# Altium schematic symbol library ic-mcu-dsp.SchLib: 16 symbols
Pins are listed as number, name and electrical type; pins without a type are passive.

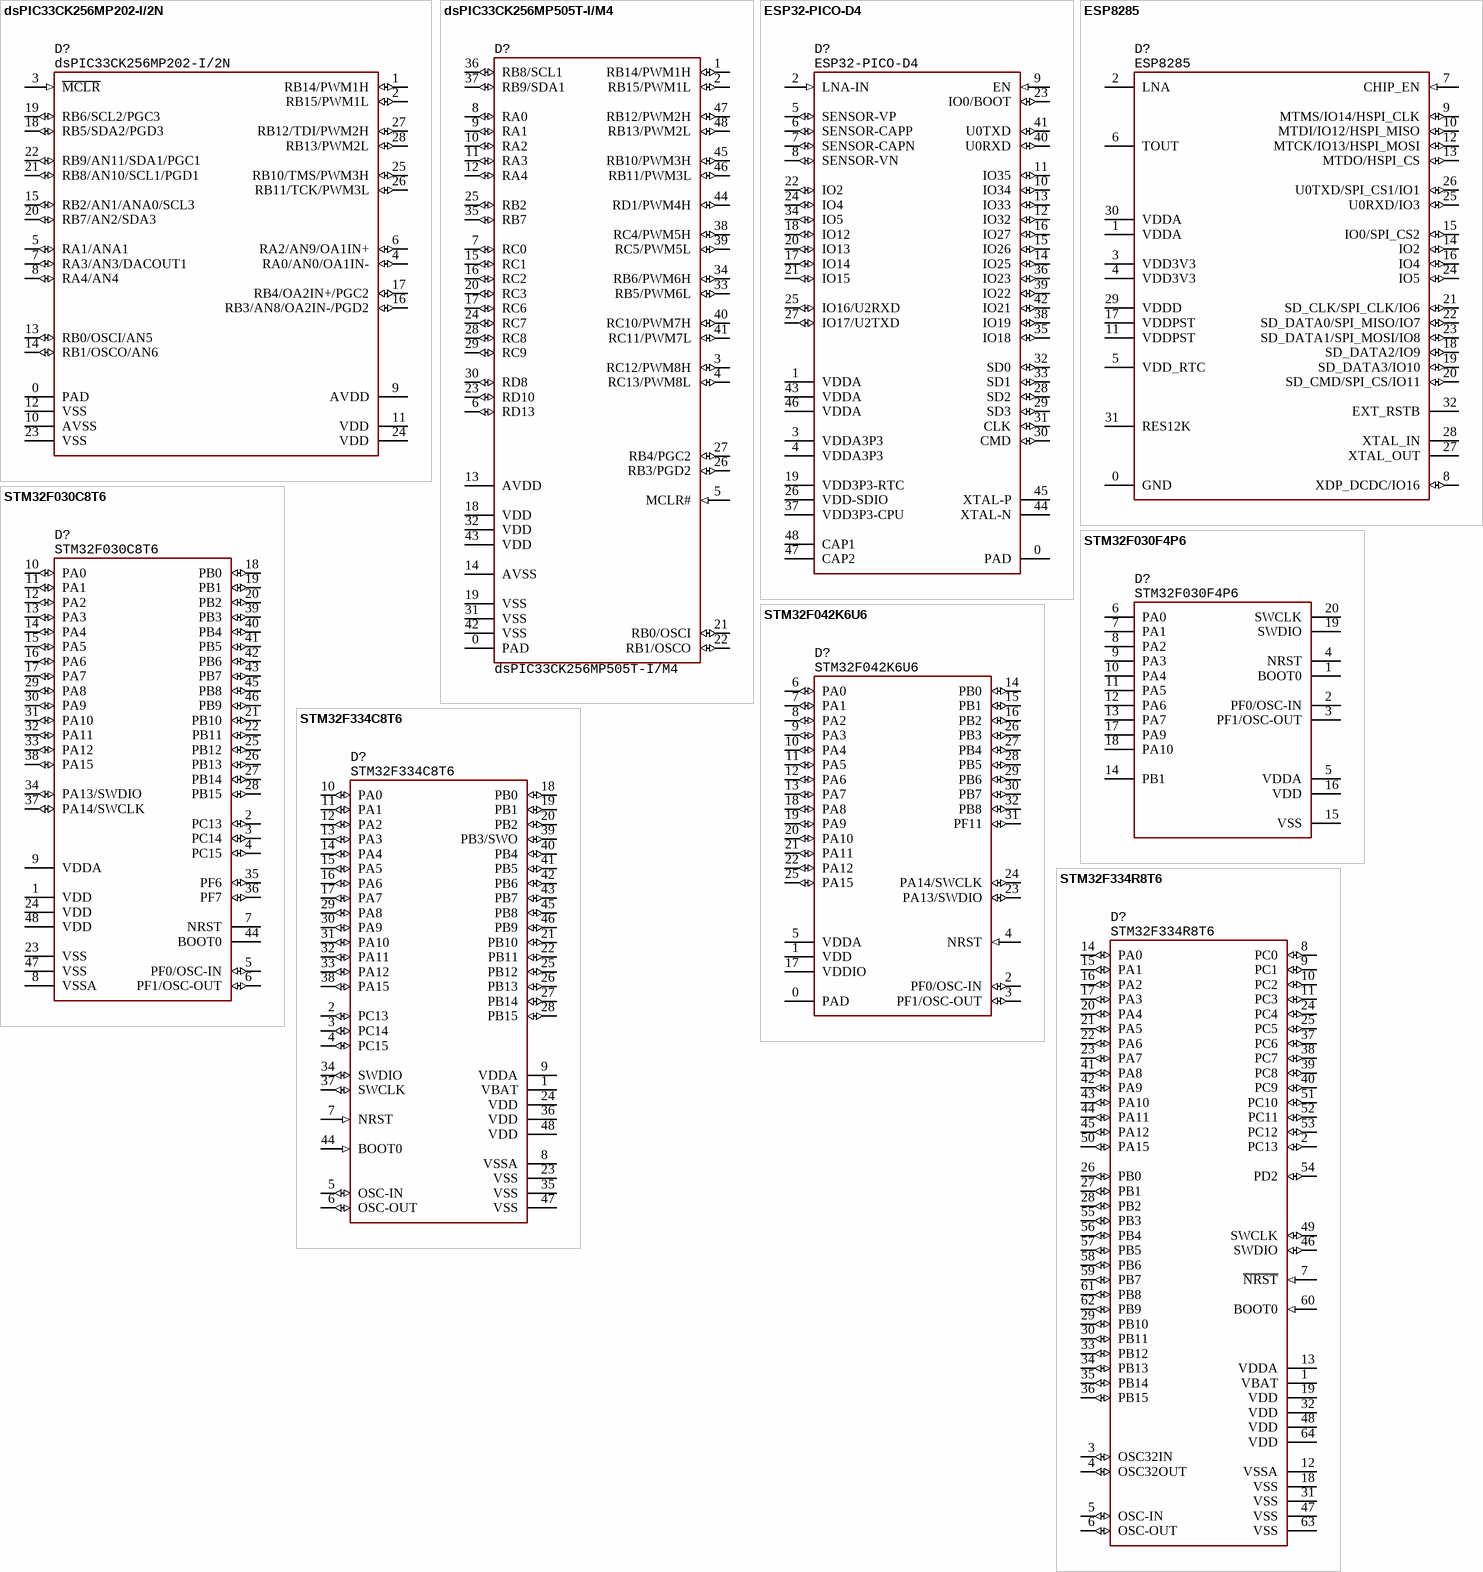
[diagram p0: symbols dsPIC33CK256MP202-I/2N to STM32F334R8T6]

## dsPIC33CK256MP202-I/2N
designator D?
DSP, 100MHz, 256KB ROM, 24KB RAM, 3...3.6V, QFN-28, -40...+85°C; Manufacturer: Microchip; HelpURL: https://nl.mouser.com/ProductDetail/579-PIC33CK256MP202I; Package: QFN-28; PartNumber: dsPIC33CK256MP202-I/2N
footprint 28-QFN (6x6, pitch 0.65) (6x6 mm, pitch 0.65 mm, power pad)
pins: 0 PAD, 1 RB14/PWM1H (io), 2 RB15/PWM1L (io), 3 ~{MCLR} (in), 4 RA0/AN0/OA1IN- (io), 5 RA1/ANA1 (io), 6 RA2/AN9/OA1IN+ (io), 7 RA3/AN3/DACOUT1 (io), 8 RA4/AN4 (io), 9 AVDD, 10 AVSS, 11 VDD, 12 VSS, 13 RB0/OSCI/AN5 (io), 14 RB1/OSCO/AN6 (io), 15 RB2/AN1/ANA0/SCL3 (io), 16 RB3/AN8/OA2IN-/PGD2 (io), 17 RB4/OA2IN+/PGC2 (io), 18 RB5/SDA2/PGD3 (io), 19 RB6/SCL2/PGC3 (io), 20 RB7/AN2/SDA3 (io), 21 RB8/AN10/SCL1/PGD1 (io), 22 RB9/AN11/SDA1/PGC1 (io), 23 VSS, 24 VDD, 25 RB10/TMS/PWM3H (io), 26 RB11/TCK/PWM3L (io), 27 RB12/TDI/PWM2H (io), 28 RB13/PWM2L (io)

## dsPIC33CK256MP505T-I/M4
designator D?
DSP, 100MHz, 256KB ROM, 24KB RAM, 3...3.6V, UFQFN-48, -40...+150°C; Manufacturer: Microchip; Package: UQFN-48; HelpURL: https://ru.mouser.com/ProductDetail/Microchip-Technology/DSPIC33CK256MP505T-I-M4?qs=%2Fha2pyFaduhcby8oJD11aCzYzUP7BqiSeN7R00aGZac4AWBDNl%2F3FStKyPbqpsOD; PartNumber: dsPIC33CK256MP505T-I/M4
footprint 48-QFN (6x6, pitch 0.4) (6x6 mm, pitch 0.4 mm, power pad)
pins: 0 PAD, 1 RB14/PWM1H (io), 2 RB15/PWM1L (io), 3 RC12/PWM8H (io), 4 RC13/PWM8L (io), 5 MCLR# (in), 6 RD13 (io), 7 RC0 (io), 8 RA0 (io), 9 RA1 (io), 10 RA2 (io), 11 RA3 (io), 12 RA4 (io), 13 AVDD, 14 AVSS, 15 RC1 (io), 16 RC2 (io), 17 RC6 (io), 18 VDD, 19 VSS, 20 RC3 (io), 21 RB0/OSCI (io), 22 RB1/OSCO (io), 23 RD10 (io), 24 RC7 (io), 25 RB2 (io), 26 RB3/PGD2 (io), 27 RB4/PGC2 (io), 28 RC8 (io), 29 RC9 (io), 30 RD8 (io), 31 VSS, 32 VDD, 33 RB5/PWM6L (io), 34 RB6/PWM6H (io), 35 RB7 (io), 36 RB8/SCL1 (io), 37 RB9/SDA1 (io), 38 RC4/PWM5H (io), 39 RC5/PWM5L (io), 40 RC10/PWM7H (io), 41 RC11/PWM7L (io), 42 VSS, 43 VDD, 44 RD1/PWM4H (io), 45 RB10/PWM3H (io), 46 RB11/PWM3L (io), 47 RB12/PWM2H (io), 48 RB13/PWM2L (io)

## ESP32-PICO-D4
designator D?
RF SiP, WiFi/BT, 150 Mbps, 20 dBm, 4 Mb ROM, 512 kB RAM, QFN-48, -40...+85°C; Manufacturer: Espressif Systems; HelpURL: https://eu.mouser.com/ProductDetail/Espressif-Systems/ESP32-PICO-D4?qs=MLItCLRbWsw7MJlbN3HfdA%3D%3D; Package: QFN-48; PartNumber: ESP32-PICO-D4
footprint 48-LGA (7x7, pitch 0.5) (7x7 mm, pitch 0.5 mm, power pad)
pins: 0 PAD, 1 VDDA, 2 LNA-IN (in), 3 VDDA3P3, 4 VDDA3P3, 5 SENSOR-VP (io), 6 SENSOR-CAPP (io), 7 SENSOR-CAPN (io), 8 SENSOR-VN (io), 9 EN (in), 10 IO34 (io), 11 IO35 (io), 12 IO32 (io), 13 IO33 (io), 14 IO25 (io), 15 IO26 (io), 16 IO27 (io), 17 IO14 (io), 18 IO12 (io), 19 VDD3P3-RTC, 20 IO13 (io), 21 IO15 (io), 22 IO2 (io), 23 IO0/BOOT (io), 24 IO4 (io), 25 IO16/U2RXD (io), 26 VDD-SDIO, 27 IO17/U2TXD (io), 28 SD2 (io), 29 SD3 (io), 30 CMD (io), 31 CLK (io), 32 SD0 (io), 33 SD1 (io), 34 IO5 (io), 35 IO18 (io), 36 IO23 (io), 37 VDD3P3-CPU, 38 IO19 (io), 39 IO22 (io), 40 U0RXD (io), 41 U0TXD (io), 42 IO21 (io), 43 VDDA, 44 XTAL-N, 45 XTAL-P, 46 VDDA, 47 CAP2, 48 CAP1

## ESP8285
designator D?
RF SoC, WiFi/BT, 72 Mbps, 19 dBm, 1024 kB ROM, 50 kB RAM, QFN-32, -40...+85°C; Manufacturer: Espressif Systems; HelpURL: https://eu.mouser.com/ProductDetail/Espressif-Systems/ESP8285?qs=chTDxNqvsyn49Ad%252BqWdhIQ%3D%3D; Package: QFN-32; PartNumber: ESP8285
footprint 32-QFN (5x5, pitch 0.5) (5x5 mm, pitch 0.5 mm, power pad)
pins: 0 GND, 1 VDDA, 2 LNA, 3 VDD3V3, 4 VDD3V3, 5 VDD_RTC, 6 TOUT, 7 CHIP_EN (in), 8 XDP_DCDC/IO16 (io), 9 MTMS/IO14/HSPI_CLK (io), 10 MTDI/IO12/HSPI_MISO (io), 11 VDDPST, 12 MTCK/IO13/HSPI_MOSI (io), 13 MTDO/HSPI_CS (io), 14 IO2 (io), 15 IO0/SPI_CS2 (io), 16 IO4 (io), 17 VDDPST, 18 SD_DATA2/IO9 (io), 19 SD_DATA3/IO10 (io), 20 SD_CMD/SPI_CS/IO11 (io), 21 SD_CLK/SPI_CLK/IO6 (io), 22 SD_DATA0/SPI_MISO/IO7 (io), 23 SD_DATA1/SPI_MOSI/IO8 (io), 24 IO5 (io), 25 U0RXD/IO3 (io), 26 U0TXD/SPI_CS1/IO1 (io), 27 XTAL_OUT, 28 XTAL_IN, 29 VDDD, 30 VDDA, 31 RES12K, 32 EXT_RSTB

## STM32F030C8T6
designator D?
Cortex-M0, 48MHz, 64KB ROM, 8KB RAM, 1.8...3.6V, LQFP-48, -40...+85°C; Manufacturer: STMicroelectronics; HelpURL: https://eu.mouser.com/ProductDetail/STMicroelectronics/STM32F030C8T6?qs=eyrSuY1LhL02NUjnPm0S4A%3D%3D; Package: LQFP-48; PartNumber: STM32F030C8T6
footprint 48-LQFP (QFP, 48-Leads, Body 7x7mm, Pitch 0.5mm, IPC Medium Density)
pins: 1 VDD, 2 PC13 (io), 3 PC14 (io), 4 PC15 (io), 5 PF0/OSC-IN (io), 6 PF1/OSC-OUT (io), 7 NRST, 8 VSSA, 9 VDDA, 10 PA0 (io), 11 PA1 (io), 12 PA2 (io), 13 PA3 (io), 14 PA4 (io), 15 PA5 (io), 16 PA6 (io), 17 PA7 (io), 18 PB0 (io), 19 PB1 (io), 20 PB2 (io), 21 PB10 (io), 22 PB11 (io), 23 VSS, 24 VDD, 25 PB12 (io), 26 PB13 (io), 27 PB14 (io), 28 PB15 (io), 29 PA8 (io), 30 PA9 (io), 31 PA10 (io), 32 PA11 (io), 33 PA12 (io), 34 PA13/SWDIO (io), 35 PF6 (io), 36 PF7 (io), 37 PA14/SWCLK (io), 38 PA15 (io), 39 PB3 (io), 40 PB4 (io), 41 PB5 (io), 42 PB6 (io), 43 PB7 (io), 44 BOOT0, 45 PB8 (io), 46 PB9 (io), 47 VSS, 48 VDD

## STM32F030F4P6
designator D?
Cortex-M0, 48MHz, 16KB ROM, 4KB RAM, 2.4...3.6V, TSSOP-20, -40...+85°C; Manufacturer: STMicroelectronics; HelpURL: https://eu.mouser.com/ProductDetail/STMicroelectronics/STM32F030F4P6?qs=eyrSuY1LhL02tVhJ92aI6g%3D%3D; Package: TSSOP-20; PartNumber: STM32F030F4P6
footprint 20-TSSOP (pitch 0.65 mm)
pins: 1 BOOT0, 2 PF0/OSC-IN, 3 PF1/OSC-OUT, 4 NRST, 5 VDDA, 6 PA0, 7 PA1, 8 PA2, 9 PA3, 10 PA4, 11 PA5, 12 PA6, 13 PA7, 14 PB1, 15 VSS, 16 VDD, 17 PA9, 18 PA10, 19 SWDIO, 20 SWCLK

## STM32F042K6U6
designator D?
Cortex-M0, 48MHz, 32KB ROM, 6KB RAM, 2.4...3.6V, QFN-32, -40...+85°C; Manufacturer: STMicroelectronics; HelpURL: https://eu.mouser.com/ProductDetail/STMicroelectronics/STM32F042K6U6?qs=4l9S5vBWkUI1HFPPlP09zA%3D%3D; Package: QFN-32; PartNumber: STM32F042K6U6
footprint 32-QFN (5x5, pitch 0.5) (5x5 mm, pitch 0.5 mm, power pad)
pins: 0 PAD, 1 VDD, 2 PF0/OSC-IN (io), 3 PF1/OSC-OUT (io), 4 NRST (in), 5 VDDA, 6 PA0 (io), 7 PA1 (io), 8 PA2 (io), 9 PA3 (io), 10 PA4 (io), 11 PA5 (io), 12 PA6 (io), 13 PA7 (io), 14 PB0 (io), 15 PB1 (io), 16 PB2 (io), 17 VDDIO, 18 PA8 (io), 19 PA9 (io), 20 PA10 (io), 21 PA11 (io), 22 PA12 (io), 23 PA13/SWDIO (io), 24 PA14/SWCLK (io), 25 PA15 (io), 26 PB3 (io), 27 PB4 (io), 28 PB5 (io), 29 PB6 (io), 30 PB7 (io), 31 PF11 (io), 32 PB8 (io)

## STM32F334C8T6
designator D?
Cortex-M4, 72MHz, 64KB ROM, 12KB RAM, 2...3.6V, LQFP-48, -40...+85°C; Manufacturer: STMicroelectronics; HelpURL: https://eu.mouser.com/ProductDetail/STMicroelectronics/STM32F334C8T6?qs=9MuLHSklicqt3Oowy%252Bwgaw%3D%3D; Package: LQFP-48; PartNumber: STM32F334C8T6
footprint 48-LQFP (QFP, 48-Leads, Body 7x7mm, Pitch 0.5mm, IPC Medium Density)
pins: 1 VBAT, 2 PC13 (io), 3 PC14 (io), 4 PC15 (io), 5 OSC-IN (io), 6 OSC-OUT (io), 7 NRST (in), 8 VSSA, 9 VDDA, 10 PA0 (io), 11 PA1 (io), 12 PA2 (io), 13 PA3 (io), 14 PA4 (io), 15 PA5 (io), 16 PA6 (io), 17 PA7 (io), 18 PB0 (io), 19 PB1 (io), 20 PB2 (io), 21 PB10 (io), 22 PB11 (io), 23 VSS, 24 VDD, 25 PB12 (io), 26 PB13 (io), 27 PB14 (io), 28 PB15 (io), 29 PA8 (io), 30 PA9 (io), 31 PA10 (io), 32 PA11 (io), 33 PA12 (io), 34 SWDIO (io), 35 VSS, 36 VDD, 37 SWCLK (io), 38 PA15 (io), 39 PB3/SWO (io), 40 PB4 (io), 41 PB5 (io), 42 PB6 (io), 43 PB7 (io), 44 BOOT0 (in), 45 PB8 (io), 46 PB9 (io), 47 VSS, 48 VDD

## STM32F334R8T6
designator D?
Cortex-M4, 72MHz, 64KB ROM, 12KB RAM, 2...3.6V, LQFP-64, -40...+85°C; Manufacturer: STMicroelectronics; HelpURL: https://eu.mouser.com/ProductDetail/STMicroelectronics/STM32F334R8T6?qs=9MuLHSklicolCfS00G2jAg%3D%3D; Package: LQFP-64; PartNumber: STM32F334R8T6
footprint 64-LQFP (Thin QFP, 64-Leads, Body 10x10mm, Pitch 0.5mm, IPC Medium Density)
pins: 1 VBAT (power), 2 PC13 (io), 3 OSC32IN (io), 4 OSC32OUT (io), 5 OSC-IN (io), 6 OSC-OUT (io), 7 ~{NRST} (in), 8 PC0 (io), 9 PC1 (io), 10 PC2 (io), 11 PC3 (io), 12 VSSA (power), 13 VDDA (power), 14 PA0 (io), 15 PA1 (io), 16 PA2 (io), 17 PA3 (io), 18 VSS (power), 19 VDD (power), 20 PA4 (io), 21 PA5 (io), 22 PA6 (io), 23 PA7 (io), 24 PC4 (io), 25 PC5 (io), 26 PB0 (io), 27 PB1 (io), 28 PB2 (io), 29 PB10 (io), 30 PB11 (io), 31 VSS (power), 32 VDD (power), 33 PB12 (io), 34 PB13 (io), 35 PB14 (io), 36 PB15 (io), 37 PC6 (io), 38 PC7 (io), 39 PC8 (io), 40 PC9 (io), 41 PA8 (io), 42 PA9 (io), 43 PA10 (io), 44 PA11 (io), 45 PA12 (io), 46 SWDIO (io), 47 VSS (power), 48 VDD (power), 49 SWCLK (io), 50 PA15 (io), 51 PC10 (io), 52 PC11 (io), 53 PC12 (io), 54 PD2 (io), 55 PB3 (io), 56 PB4 (io), 57 PB5 (io), 58 PB6 (io), 59 PB7 (io), 60 BOOT0 (in), 61 PB8 (io), 62 PB9 (io), 63 VSS (power), 64 VDD (power)

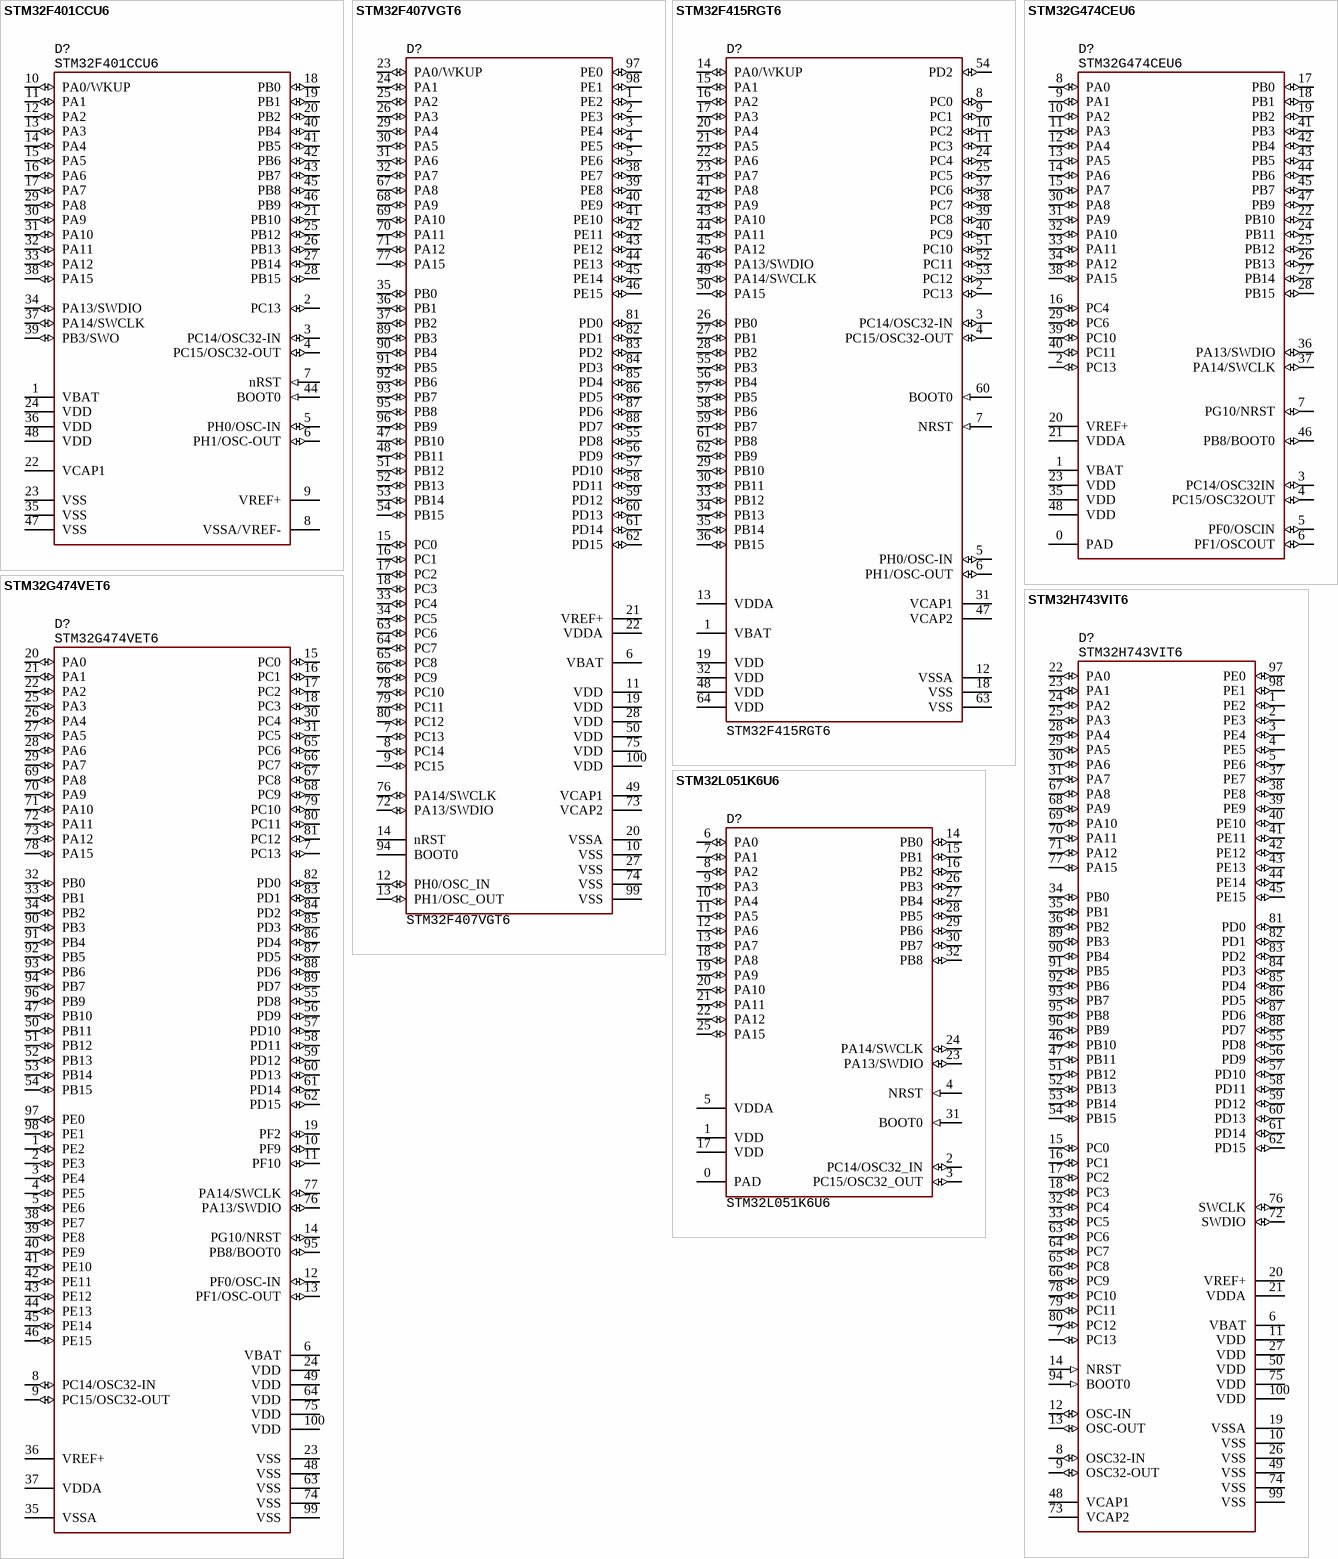
[diagram p1: symbols STM32F401CCU6 to STM32L051K6U6]

## STM32F401CCU6
designator D?
Cortex-M4, 84MHz, 256KB ROM, 64KB RAM, 1.7...3.6V, QFN-48, -40...+85°C; Manufacturer: STMicroelectronics; HelpURL: https://eu.mouser.com/ProductDetail/STMicroelectronics/STM32F401CCU6?qs=DqCdCwOw4%2F5VrOZQxO795A%3D%3D; Package: QFN-48; PartNumber: STM32F401CCU6
footprint 48-QFN (7x7, pitch 0.5) (7x7 mm, pitch 0.5 mm, power pad)
pins: 1 VBAT, 2 PC13 (io), 3 PC14/OSC32-IN (io), 4 PC15/OSC32-OUT (io), 5 PH0/OSC-IN (io), 6 PH1/OSC-OUT (io), 7 nRST (in), 8 VSSA/VREF-, 9 VREF+, 10 PA0/WKUP (io), 11 PA1 (io), 12 PA2 (io), 13 PA3 (io), 14 PA4 (io), 15 PA5 (io), 16 PA6 (io), 17 PA7 (io), 18 PB0 (io), 19 PB1 (io), 20 PB2 (io), 21 PB10 (io), 22 VCAP1, 23 VSS, 24 VDD, 25 PB12 (io), 26 PB13 (io), 27 PB14 (io), 28 PB15 (io), 29 PA8 (io), 30 PA9 (io), 31 PA10 (io), 32 PA11 (io), 33 PA12 (io), 34 PA13/SWDIO (io), 35 VSS, 36 VDD, 37 PA14/SWCLK (io), 38 PA15 (io), 39 PB3/SWO (io), 40 PB4 (io), 41 PB5 (io), 42 PB6 (io), 43 PB7 (io), 44 BOOT0 (in), 45 PB8 (io), 46 PB9 (io), 47 VSS, 48 VDD

## STM32F407VGT6
designator D?  PartNumber: STM32F407VGT6
Cortex-M4, 168MHz, 1024KB ROM, 192KB RAM, 1.8...3.6V, LQFP-100, -40...+85°C; Manufacturer: STMicroelectronics; HelpURL: https://www.digikey.com/en/products/detail/stmicroelectronics/STM32F407VGT6/2747117; Package: 100-LQFP
footprint 100-LQFP (Thin QFP, 100-Leads, Body 14x14mm, Pitch 0.5mm, IPC Medium Density)
pins: 1 PE2 (io), 2 PE3 (io), 3 PE4 (io), 4 PE5 (io), 5 PE6 (io), 6 VBAT, 7 PC13 (io), 8 PC14 (io), 9 PC15 (io), 10 VSS, 11 VDD, 12 PH0/OSC_IN (io), 13 PH1/OSC_OUT (io), 14 nRST, 15 PC0 (io), 16 PC1 (io), 17 PC2 (io), 18 PC3 (io), 19 VDD, 20 VSSA, 21 VREF+, 22 VDDA, 23 PA0/WKUP (io), 24 PA1 (io), 25 PA2 (io), 26 PA3 (io), 27 VSS, 28 VDD, 29 PA4 (io), 30 PA5 (io), 31 PA6 (io), 32 PA7 (io), 33 PC4 (io), 34 PC5 (io), 35 PB0 (io), 36 PB1 (io), 37 PB2 (io), 38 PE7 (io), 39 PE8 (io), 40 PE9 (io), 41 PE10 (io), 42 PE11 (io), 43 PE12 (io), 44 PE13 (io), 45 PE14 (io), 46 PE15 (io), 47 PB10 (io), 48 PB11 (io), 49 VCAP1, 50 VDD, 51 PB12 (io), 52 PB13 (io), 53 PB14 (io), 54 PB15 (io), 55 PD8 (io), 56 PD9 (io), 57 PD10 (io), 58 PD11 (io), 59 PD12 (io), 60 PD13 (io), 61 PD14 (io), 62 PD15 (io), 63 PC6 (io), 64 PC7 (io), 65 PC8 (io), 66 PC9 (io), 67 PA8 (io), 68 PA9 (io), 69 PA10 (io), 70 PA11 (io), 71 PA12 (io), 72 PA13/SWDIO (io), 73 VCAP2, 74 VSS, 75 VDD, 76 PA14/SWCLK (io), 77 PA15 (io), 78 PC10 (io), 79 PC11 (io), 80 PC12 (io), 81 PD0 (io), 82 PD1 (io), 83 PD2 (io), 84 PD3 (io), 85 PD4 (io), 86 PD5 (io), 87 PD6 (io), 88 PD7 (io), 89 PB3 (io), 90 PB4 (io), 91 PB5 (io), 92 PB6 (io), 93 PB7 (io), 94 BOOT0, 95 PB8 (io), 96 PB9 (io), 97 PE0 (io), 98 PE1 (io), 99 VSS, 100 VDD

## STM32F415RGT6
designator D?  PartNumber: STM32F415RGT6
Cortex-M4, 168MHz, 1024KB ROM, 192KB RAM, 1.8...3.6V, LQFP-64, -40...+85°C; Manufacturer: STMicroelectronics; HelpURL: https://eu.mouser.com/ProductDetail/STMicroelectronics/STM32F415RGT6?qs=Z8%252BeY1k3TIInWw2QSLYjXw%3D%3D; Package: LQFP-64
footprint 64-LQFP (Thin QFP, 64-Leads, Body 10x10mm, Pitch 0.5mm, IPC Medium Density)
pins: 1 VBAT, 2 PC13 (io), 3 PC14/OSC32-IN (io), 4 PC15/OSC32-OUT (io), 5 PH0/OSC-IN (io), 6 PH1/OSC-OUT (io), 7 NRST (in), 8 PC0 (io), 9 PC1 (io), 10 PC2 (io), 11 PC3 (io), 12 VSSA, 13 VDDA, 14 PA0/WKUP (io), 15 PA1 (io), 16 PA2 (io), 17 PA3 (io), 18 VSS, 19 VDD, 20 PA4 (io), 21 PA5 (io), 22 PA6 (io), 23 PA7 (io), 24 PC4 (io), 25 PC5 (io), 26 PB0 (io), 27 PB1 (io), 28 PB2 (io), 29 PB10 (io), 30 PB11 (io), 31 VCAP1, 32 VDD, 33 PB12 (io), 34 PB13 (io), 35 PB14 (io), 36 PB15 (io), 37 PC6 (io), 38 PC7 (io), 39 PC8 (io), 40 PC9 (io), 41 PA8 (io), 42 PA9 (io), 43 PA10 (io), 44 PA11 (io), 45 PA12 (io), 46 PA13/SWDIO (io), 47 VCAP2, 48 VDD, 49 PA14/SWCLK (io), 50 PA15 (io), 51 PC10 (io), 52 PC11 (io), 53 PC12 (io), 54 PD2 (io), 55 PB3 (io), 56 PB4 (io), 57 PB5 (io), 58 PB6 (io), 59 PB7 (io), 60 BOOT0 (in), 61 PB8 (io), 62 PB9 (io), 63 VSS, 64 VDD

## STM32G474CEU6
designator D?
Cortex-M4, 170MHz, 512KB ROM, 128KB RAM, 1.71...3.6V, QFN-48, -40...+85°C; Manufacturer: STMicroelectronics; HelpURL: https://eu.mouser.com/ProductDetail/STMicroelectronics/STM32G474CEU6?qs=PzGy0jfpSMvczLLzMNbcpg%3D%3D; Package: QFN-48; PartNumber: STM32G474CEU6
footprint 48-QFN (7x7, pitch 0.5) (7x7 mm, pitch 0.5 mm, power pad)
pins: 0 PAD, 1 VBAT, 2 PC13 (io), 3 PC14/OSC32IN (io), 4 PC15/OSC32OUT (io), 5 PF0/OSCIN (io), 6 PF1/OSCOUT (io), 7 PG10/NRST (io), 8 PA0 (io), 9 PA1 (io), 10 PA2 (io), 11 PA3 (io), 12 PA4 (io), 13 PA5 (io), 14 PA6 (io), 15 PA7 (io), 16 PC4 (io), 17 PB0 (io), 18 PB1 (io), 19 PB2 (io), 20 VREF+, 21 VDDA, 22 PB10 (io), 23 VDD, 24 PB11 (io), 25 PB12 (io), 26 PB13 (io), 27 PB14 (io), 28 PB15 (io), 29 PC6 (io), 30 PA8 (io), 31 PA9 (io), 32 PA10 (io), 33 PA11 (io), 34 PA12 (io), 35 VDD, 36 PA13/SWDIO (io), 37 PA14/SWCLK (io), 38 PA15 (io), 39 PC10 (io), 40 PC11 (io), 41 PB3 (io), 42 PB4 (io), 43 PB5 (io), 44 PB6 (io), 45 PB7 (io), 46 PB8/BOOT0 (io), 47 PB9 (io), 48 VDD

## STM32G474VET6
designator D?
Cortex-M4, 170MHz, 512KB ROM, 128KB RAM, 1.71...3.6V, LQFP-100, -40...+85°C; Manufacturer: STMicroelectronics; HelpURL: https://eu.mouser.com/ProductDetail/STMicroelectronics/STM32G474VET6?qs=T3oQrply3y%252Bhr9aGu1OmDw%3D%3D; Package: LQFP-100; PartNumber: STM32G474VET6
footprint 100-LQFP (Thin QFP, 100-Leads, Body 14x14mm, Pitch 0.5mm, IPC Medium Density)
pins: 1 PE2 (io), 2 PE3 (io), 3 PE4 (io), 4 PE5 (io), 5 PE6 (io), 6 VBAT, 7 PC13 (io), 8 PC14/OSC32-IN (io), 9 PC15/OSC32-OUT (io), 10 PF9 (io), 11 PF10 (io), 12 PF0/OSC-IN (io), 13 PF1/OSC-OUT (io), 14 PG10/NRST (io), 15 PC0 (io), 16 PC1 (io), 17 PC2 (io), 18 PC3 (io), 19 PF2 (io), 20 PA0 (io), 21 PA1 (io), 22 PA2 (io), 23 VSS, 24 VDD, 25 PA3 (io), 26 PA4 (io), 27 PA5 (io), 28 PA6 (io), 29 PA7 (io), 30 PC4 (io), 31 PC5 (io), 32 PB0 (io), 33 PB1 (io), 34 PB2 (io), 35 VSSA, 36 VREF+, 37 VDDA, 38 PE7 (io), 39 PE8 (io), 40 PE9 (io), 41 PE10 (io), 42 PE11 (io), 43 PE12 (io), 44 PE13 (io), 45 PE14 (io), 46 PE15 (io), 47 PB10 (io), 48 VSS, 49 VDD, 50 PB11 (io), 51 PB12 (io), 52 PB13 (io), 53 PB14 (io), 54 PB15 (io), 55 PD8 (io), 56 PD9 (io), 57 PD10 (io), 58 PD11 (io), 59 PD12 (io), 60 PD13 (io), 61 PD14 (io), 62 PD15 (io), 63 VSS, 64 VDD, 65 PC6 (io), 66 PC7 (io), 67 PC8 (io), 68 PC9 (io), 69 PA8 (io), 70 PA9 (io), 71 PA10 (io), 72 PA11 (io), 73 PA12 (io), 74 VSS, 75 VDD, 76 PA13/SWDIO (io), 77 PA14/SWCLK (io), 78 PA15 (io), 79 PC10 (io), 80 PC11 (io), 81 PC12 (io), 82 PD0 (io), 83 PD1 (io), 84 PD2 (io), 85 PD3 (io), 86 PD4 (io), 87 PD5 (io), 88 PD6 (io), 89 PD7 (io), 90 PB3 (io), 91 PB4 (io), 92 PB5 (io), 93 PB6 (io), 94 PB7 (io), 95 PB8/BOOT0 (io), 96 PB9 (io), 97 PE0 (io), 98 PE1 (io), 99 VSS, 100 VDD

## STM32H743VIT6
designator D?
Cortex-M7, 480MHz, 2048KB ROM, 1024KB RAM, 1.71...3.6V, LQFP-100, -40...+85°C; Manufacturer: STMicroelectronics; HelpURL: https://eu.mouser.com/ProductDetail/STMicroelectronics/STM32H743VIT6?qs=FNcb6ahWXRw0Me5k2ZHgWw%3D%3D; Package: LQFP-100; PartNumber: STM32H743VIT6
footprint 100-LQFP (Thin QFP, 100-Leads, Body 14x14mm, Pitch 0.5mm, IPC Medium Density)
pins: 1 PE2 (io), 2 PE3 (io), 3 PE4 (io), 4 PE5 (io), 5 PE6 (io), 6 VBAT, 7 PC13 (io), 8 OSC32-IN (io), 9 OSC32-OUT (io), 10 VSS, 11 VDD, 12 OSC-IN (io), 13 OSC-OUT (io), 14 NRST (in), 15 PC0 (io), 16 PC1 (io), 17 PC2 (io), 18 PC3 (io), 19 VSSA, 20 VREF+, 21 VDDA, 22 PA0 (io), 23 PA1 (io), 24 PA2 (io), 25 PA3 (io), 26 VSS, 27 VDD, 28 PA4 (io), 29 PA5 (io), 30 PA6 (io), 31 PA7 (io), 32 PC4 (io), 33 PC5 (io), 34 PB0 (io), 35 PB1 (io), 36 PB2 (io), 37 PE7 (io), 38 PE8 (io), 39 PE9 (io), 40 PE10 (io), 41 PE11 (io), 42 PE12 (io), 43 PE13 (io), 44 PE14 (io), 45 PE15 (io), 46 PB10 (io), 47 PB11 (io), 48 VCAP1, 49 VSS, 50 VDD, 51 PB12 (io), 52 PB13 (io), 53 PB14 (io), 54 PB15 (io), 55 PD8 (io), 56 PD9 (io), 57 PD10 (io), 58 PD11 (io), 59 PD12 (io), 60 PD13 (io), 61 PD14 (io), 62 PD15 (io), 63 PC6 (io), 64 PC7 (io), 65 PC8 (io), 66 PC9 (io), 67 PA8 (io), 68 PA9 (io), 69 PA10 (io), 70 PA11 (io), 71 PA12 (io), 72 SWDIO (io), 73 VCAP2, 74 VSS, 75 VDD, 76 SWCLK (io), 77 PA15 (io), 78 PC10 (io), 79 PC11 (io), 80 PC12 (io), 81 PD0 (io), 82 PD1 (io), 83 PD2 (io), 84 PD3 (io), 85 PD4 (io), 86 PD5 (io), 87 PD6 (io), 88 PD7 (io), 89 PB3 (io), 90 PB4 (io), 91 PB5 (io), 92 PB6 (io), 93 PB7 (io), 94 BOOT0 (in), 95 PB8 (io), 96 PB9 (io), 97 PE0 (io), 98 PE1 (io), 99 VSS, 100 VDD

## STM32L051K6U6
designator D?
Cortex-M0, 32MHz, 32KB ROM, 8KB RAM, 1.65...3.6V, UFQFN-32, -40...+85°C; Manufacturer: STMicroelectronics; Package: UFQFPN-32 (5x5); HelpURL: https://ru.mouser.com/ProductDetail/STMicroelectronics/STM32L051K6U6?qs=s5SkPsIz108laeFL5eCqUw%3D%3D; PartNumber: STM32L051K6U6
footprint 32-QFN (5x5, pitch 0.5) (5x5 mm, pitch 0.5 mm, power pad)
pins: 0 PAD, 1 VDD, 2 PC14/OSC32_IN (io), 3 PC15/OSC32_OUT (io), 4 NRST (in), 5 VDDA, 6 PA0 (io), 7 PA1 (io), 8 PA2 (io), 9 PA3 (io), 10 PA4 (io), 11 PA5 (io), 12 PA6 (io), 13 PA7 (io), 14 PB0 (io), 15 PB1 (io), 16 PB2 (io), 17 VDD, 18 PA8 (io), 19 PA9 (io), 20 PA10 (io), 21 PA11 (io), 22 PA12 (io), 23 PA13/SWDIO (io), 24 PA14/SWCLK (io), 25 PA15 (io), 26 PB3 (io), 27 PB4 (io), 28 PB5 (io), 29 PB6 (io), 30 PB7 (io), 31 BOOT0 (in), 32 PB8 (io)